# Altium footprint library T35-V2.PcbLib: 19 footprints (part 1 of 2)
Each footprint in its own frame and in the unit in brackets; x right, y up, seen from the top. Pads: shape width x height; smd on the part's side, far side on the other; paste and mask are expansions set on the pad; w line width, h text height; cw(c..) or ccw(c..) is an arc to the next point about the centre after c.
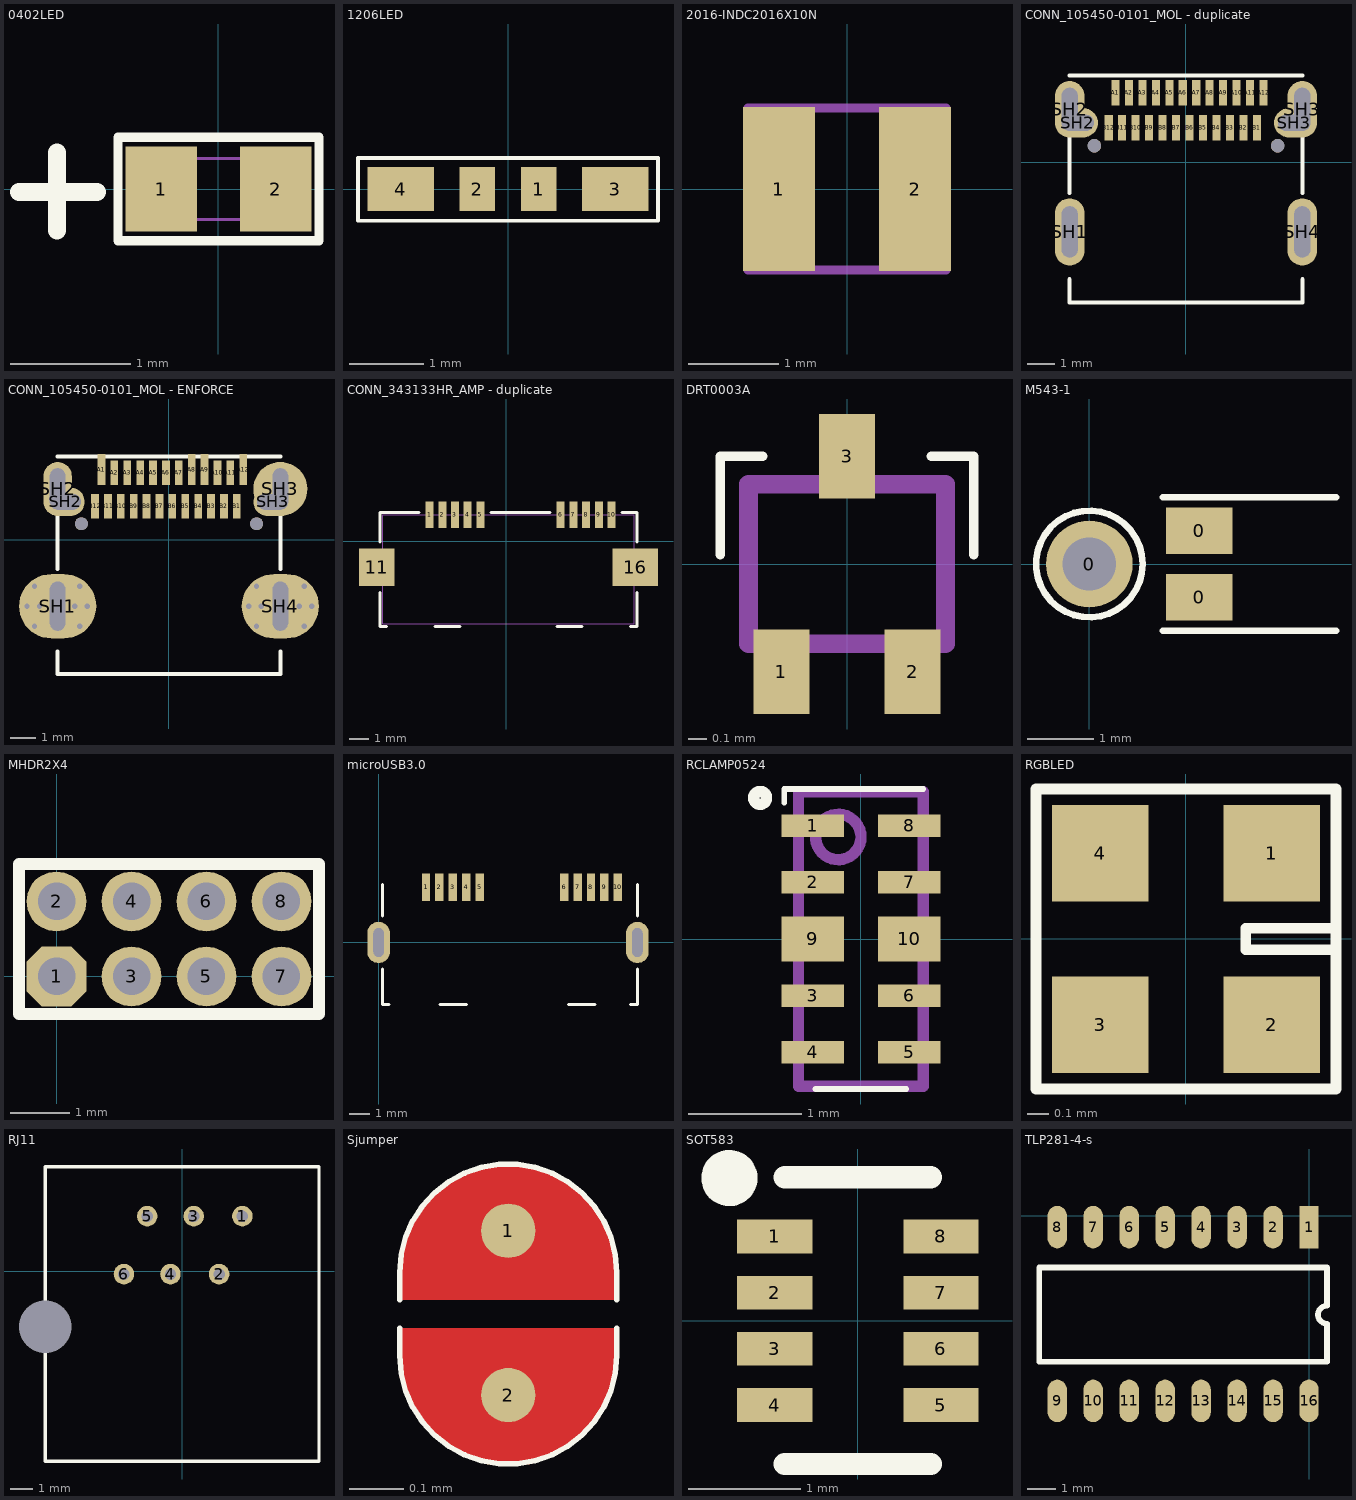
[diagram p0: the footprints below, top view; thin cyan lines are the x and y axes]

## 0402LED [mil]
pads (2):
  rect 23.5x28 smd paste+0 mask+0: 1(-18.75,0) 2(18.75,0)
Top Overlay:
  lines w3: -33,-17 33,-17 33,17 -33,17 -33,-17
  lines w6: -65.5,-1 -40,-1 ; -53,-13.5 -53,12
Mechanical 13:
  lines w1: -19.5,-10 19.5,-10 19.5,10 -19.5,10 -19.5,-10
3D body "LED_VLMW15_VIS.step": height 14.09, standoff -0.12, extent -19.49,-10.12 19.49,10.12

## 1206LED [mm]
height 1
pads (4):
  rect 0.48x0.6 smd: 1(0.415,0) 2(-0.415,0)
  rect 0.9x0.6 smd: 3(1.455,0) 4(-1.455,0)
Top Overlay:
  lines w0.05: -2.032,-0.432 2.032,-0.432 2.032,0.421 -2.032,0.421 -2.032,-0.432
3D body: height 1, standoff 0.05, extent -1.6,-0.5 1.6,0
3D body: height 1, standoff 0.05, extent -1,-1.5 1,-0.5

## 2016-INDC2016X10N [mm] "Chip Inductor, 2-Leads, Body 2.00x1.60mm, IPC Medium Density"
height 1
pads (2):
  rect 0.8x1.82 smd: 1(-0.755,0) 2(0.755,0)
Mechanical 13:
  lines w0.1: -1.1,-0.9 -1.1,0.9 1.1,0.9 1.1,-0.9 -1.1,-0.9
3D body "2016-INDC2016X10N.step": height 1, standoff 0, extent -1.1,-0.9 1.1,0.9

## CONN_105450-0101_MOL - duplicate [mm]
pads (32):
  rect 0.3x0.95 smd paste+0 mask+0: A1(-2.62,2.588) A2(-2.12,2.588) A3(-1.62,2.588) A4(-1.12,2.588) A5(-0.62,2.588) A6(-0.12,2.588) A7(0.38,2.588) A8(0.88,2.588) A9(1.38,2.588) A10(1.88,2.588) A11(2.38,2.588) A12(2.88,2.588) B1(2.63,1.288) B2(2.13,1.288) B3(1.63,1.288) B4(1.13,1.288) B5(0.63,1.288) B6(0.13,1.288) B7(-0.37,1.288) B8(-0.87,1.288) B9(-1.37,1.288) B10(-1.87,1.288) B11(-2.37,1.288) B12(-2.87,1.288)
  oval 1.1x2.5 hole 0.6 slot 1.9 at 90 deg: SH1(-4.32,-2.588) SH4(4.32,-2.588)
  oval 1.1x2.1 hole 0.6 slot 1.6 at 90 deg: SH2(-4.32,1.963) SH3(4.32,1.963)
  oval 1.5x1.1 hole 0.6 slot 1.2 at 0 deg: SH2(-4.02,1.462) SH3(4.02,1.462)
  round 0.5 hole 0.5 mask+0: ""(-3.4,0.613) ""(3.4,0.613)
Top Overlay:
  lines w0.152: -4.32,-4.343 -4.32,-5.211 4.32,-5.211 4.32,-4.343 ; -4.32,-1.146 -4.32,0.902 ; -4.32,3.224 4.32,3.224 ; 4.32,-1.146 4.32,0.902
3D body "c-2345986-1-1-3d.stp": height 3.2, standoff -0.56, extent -4.47,-5.287 4.47,2.813

## CONN_105450-0101_MOL - ENFORCE [mm]
pads (48):
  rect 0.3x1.2 smd paste+0 mask+0: A1(-2.62,2.712) A8(0.88,2.712) A9(1.38,2.712) A12(2.88,2.712)
  rect 0.3x0.95 smd paste+0 mask+0: A2(-2.12,2.588) A3(-1.62,2.588) A4(-1.12,2.588) A5(-0.62,2.588) A6(-0.12,2.588) A7(0.38,2.588) A10(1.88,2.588) A11(2.38,2.588) B1(2.63,1.288) B2(2.13,1.288) B3(1.63,1.288) B4(1.13,1.288) B5(0.63,1.288) B6(0.13,1.288) B7(-0.37,1.288) B8(-0.87,1.288) B9(-1.37,1.288) B10(-1.87,1.288) B11(-2.37,1.288) B12(-2.87,1.288)
  round 0.406 hole 0.203 mask+0: SH1(-5.512,-2.588) SH1(-5.22,-3.362) SH1(-5.22,-1.813) SH1(-5.029,-2.588) SH1(-3.658,-2.588) SH1(-3.467,-3.362) SH1(-3.467,-1.813) SH1(-3.175,-2.588) SH4(3.099,-2.588) SH4(3.391,-3.362) SH4(3.391,-1.813) SH4(3.581,-2.588) SH4(5.055,-2.591) SH4(5.245,-3.365) SH4(5.245,-1.816) SH4(5.537,-2.591)
  oval 3x2.5 / inner oval 1.1x2.5 / far side oval 3x2.5 hole 0.6 slot 1.9 at 90 deg: SH1(-4.32,-2.588) SH4(4.32,-2.588)
  oval 1.1x2.1 hole 0.6 slot 1.6 at 90 deg: SH2(-4.32,1.963)
  oval 1.5x1.1 hole 0.6 slot 1.2 at 0 deg: SH2(-4.02,1.462) SH3(4.02,1.462)
  round 2.1 / inner oval 1.1x2.1 / far side round 2.1 hole 0.6 slot 1.6 at 90 deg: SH3(4.32,1.963)
  round 0.5 hole 0.5 mask+0: ""(-3.4,0.613) ""(3.4,0.613)
Top Overlay:
  lines w0.152: -4.32,-4.343 -4.32,-5.211 4.32,-5.211 4.32,-4.343 ; -4.32,-1.146 -4.32,0.902 ; -4.32,3.224 4.32,3.224 ; 4.32,-1.146 4.32,0.902
3D body "c-2345986-1-1-3d.stp": height 3.2, standoff -0.56, extent -4.47,-5.287 4.47,2.813

## CONN_343133HR_AMP - duplicate [mil]
pads (12):
  rect 16x53 smd paste+0 mask+0: 1(-153.76,52.7) 2(-128.17,52.7) 3(-102.58,52.7) 4(-76.99,52.7) 5(-51.4,52.7) 6(110.02,52.7) 7(135.61,52.7) 8(161.2,52.7) 9(186.79,52.7) 10(212.38,52.7)
  rect 71x75 smd: 11(-260.14,-52.7)
  rect 91x75 smd: 16(260.14,-52.7)
Top Overlay:
  lines w6: -253.02,-103.3 -253.02,-171.3 -240.47,-171.3 ; -253.02,-2.1 -253.02,57.7 -174.86,57.7 ; -143.27,-171.3 -92.86,-171.3 ; -30.3,57.7 88.92,57.7 ; 102.82,-171.3 153.23,-171.3 ; 233.48,57.7 262.98,57.7 262.98,-2.1 ; 250.43,-171.3 262.98,-171.3 262.98,-103.3
Mechanical 13:
  lines w1: -248.02,-166.3 257.98,-166.3 257.98,52.7 -248.02,52.7 -248.02,-166.3
3D body "Download_STP_692622030100 (rev1).stp": height 108.14, standoff -7.92, extent -259.86,-167.53 281.17,53.02

## DRT0003A [mm]
pads (3):
  rect 0.3x0.45 smd paste+0 mask+0.051: 1(-0.35,-0.575) 2(0.35,-0.575) 3(0,0.575)
Top Overlay:
  lines w0.051: -0.675,0.05 -0.675,0.575 -0.45,0.575 ; 0.45,0.575 0.675,0.575 0.675,0.05
Mechanical 13:
  lines w0.1: -0.525,-0.425 0.525,-0.425 0.525,0.425 -0.525,0.425 -0.525,-0.425
3D body "DRT0003A.stp": height 0.5, standoff 0, extent -0.5,-0.5 0.5,0.5

## M543-1 [mm] "1.55*5.2（1A行程1.0）90度折弯针"
pads (3):
  round 1.3 hole 0.8: 0(0,0)
  rect 1x0.7 smd: 0(1.651,-0.5) 0(1.651,0.5)
Top Overlay:
  circle w0.1: c0,0 r0.8
  lines w0.1: 1.1,-1 3.7,-1 ; 1.1,1 3.7,1

## MHDR2X4 [mil]
pads (8):
  oct 40x40 hole 25: 1(0,0)
  round 40 hole 25: 2(0,50) 3(50,0) 4(50,50) 5(100,0) 6(100,50) 7(150,0) 8(150,50)
Top Overlay:
  lines w8: -25,-25 175,-25 175,75 -25,75 -25,-25
3D body "20021311-0008XXLFc.stp": height 170, standoff -93.78, extent -34.05,-33.1 184.06,85.01

## microUSB3.0 [mil]
pads (12):
  rect 16x53 smd paste+0 mask+0: 1(90.54,105.39) 2(116.13,105.39) 3(141.72,105.39) 4(167.31,105.39) 5(192.91,105.39) 6(354.33,105.39) 7(379.92,105.39) 8(405.51,105.39) 9(431.1,105.39) 10(456.69,105.39)
  oval 43.31x78.74 hole 19.68 slot 55.12 at 90 deg: ""(0,0) ""(494.09,0)
Top Overlay:
  lines w6: 7.12,-50.6 7.12,-118.61 19.67,-118.61 ; 7.12,50.6 7.12,110.39 ; 116.87,-118.61 167.27,-118.61 ; 362.96,-118.61 413.37,-118.61 ; 481.54,-118.61 494.09,-118.61 494.09,-50.6 ; 494.09,50.6 494.09,110.39
3D body "microbf有卷边脚距12.55_asm.stp": height 108.49, standoff -47.01, extent -14.61,-116 508.61,110.39

## RCLAMP0524 [mm]
pads (10):
  rect 0.55x0.2 smd paste+0 mask+0.051: 1(-0.425,1) 2(-0.425,0.5) 3(-0.425,-0.5) 4(-0.425,-1) 5(0.425,-1) 6(0.425,-0.5) 7(0.425,0.5) 8(0.425,1)
  rect 0.55x0.4 smd paste+0 mask+0.051: 9(-0.425,0) 10(0.425,0)
Top Overlay:
  circle w0.1: c-0.889,1.245 r0.057
  lines w0.05: -0.675,1.203 -0.675,1.323 -0.55,1.323 0.55,1.323 ; -0.4,-1.323 0.4,-1.323
Mechanical 13:
  circle w0.1: c-0.2,0.9 r0.2
  lines w0.1: -0.55,-1.3 -0.55,1.3 0.55,1.3 0.55,-1.3 -0.55,-1.3
3D body "DQA0010A.stp": height 0.55, standoff 0, extent -0.5,-1.25 0.5,1.25

## RGBLED [mm]
pads (4):
  rect 0.45x0.45 smd: 1(0.4,0.4) 2(0.4,-0.4) 3(-0.4,-0.4) 4(-0.4,0.4)
Top Overlay:
  lines w0.05: 0.686,-0.051 0.279,-0.051 0.279,0.051 0.686,0.051 ; -0.7,-0.7 0.7,-0.7 0.7,0.7 -0.7,0.7 -0.7,-0.7
3D body: height 0.85, standoff 0.1, extent -0.5,-0.5 0.5,0.5

## RJ11 [mm] "https://item.szlcsc.com/203237.html"
pads (7):
  round 0.9 hole 0.5 mask+0: 1(2.64,2.42) 2(1.62,-0.12) 3(0.51,2.42) 4(-0.51,-0.12) 5(-1.53,2.42) 6(-2.55,-0.12)
  round 2.2 hole 2.3: ""(-6,-2.42)
Top Overlay:
  lines w0.152: -6,-8.318 6,-8.318 6,4.58 -6,4.58 -6,-8.318
3D body "TJ6P6C gray.stp": height 14.63, standoff -3.12, extent -7.21,-8.352 7.29,4.648

## Sjumper [mm]
pads (2):
  round 0.1 smd mask+0.01: 1(2527.228,2514.575) 2(2527.228,2514.273)
Top Layer:
  region: 2527.028,2514.346 2527.028,2514.396 2527.428,2514.396 2527.428,2514.346 2527.428,2514.306 2527.397,2514.233 2527.341,2514.176 2527.268,2514.146 2527.188,2514.146 2527.115,2514.176 2527.058,2514.233 2527.028,2514.306
  region: 2527.028,2514.448 2527.428,2514.448 2527.428,2514.498 2527.428,2514.538 2527.397,2514.612 2527.341,2514.668 2527.268,2514.698 2527.188,2514.698 2527.115,2514.668 2527.058,2514.612 2527.028,2514.538 2527.028,2514.498
Top Overlay:
  lines w0.01: 2527.028,2514.396 2527.028,2514.346 ccw(c2527.228,2514.346) 2527.428,2514.346 2527.428,2514.396 ; 2527.028,2514.448 2527.028,2514.498 cw(c2527.228,2514.498) 2527.428,2514.498 2527.428,2514.448
Top Solder:
  region: 2527.027,2514.346 2527.027,2514.306 2527.057,2514.233 2527.114,2514.176 2527.187,2514.146 2527.267,2514.146 2527.34,2514.176 2527.397,2514.233 2527.427,2514.306 2527.427,2514.346 2527.427,2514.498 2527.427,2514.538 2527.397,2514.612 2527.34,2514.668 2527.267,2514.698 2527.187,2514.698 2527.114,2514.668 2527.057,2514.612 2527.027,2514.538 2527.027,2514.498

## SOT583 [mm]
pads (8):
  rect 0.67x0.3 smd paste+0 mask+0: 1(-0.74,0.75) 2(-0.74,0.25) 3(-0.74,-0.25) 4(-0.74,-0.75) 5(0.74,-0.75) 6(0.74,-0.25) 7(0.74,0.25) 8(0.74,0.75)
Top Overlay:
  circle w0.25: c-1.143,1.27 r0.125
  lines w0.2: -0.65,-1.275 0.65,-1.275 ; -0.65,1.275 0.65,1.275
3D body "DRL0008A.stp": height 0.6, standoff 0, extent -0.8,-1.05 0.8,1.05

## TLP281-4-s [mil]
pads (16):
  rect 27x59.06 smd: 1(0,-16)
  oval 27x59.06 smd: 2(-50,-16) 3(-100,-16) 4(-150,-16) 5(-200,-16) 6(-250,-16) 7(-300,-16) 8(-350,-16) 9(-350,-257.59) 10(-300,-257.59) 11(-250,-257.59) 12(-200,-257.59) 13(-150,-257.59) 14(-100,-257.59) 15(-50,-257.59) 16(0,-257.59)
Top Overlay:
  lines w7.87: -375,-203.35 -375,-72.24 25,-72.24 25,-125.3 ccw(c25,-137.79) 25,-150.29 25,-203.35 -375,-203.35
3D body "SO-16.step": height 69.88, standoff 0.46, extent -372.84,-255.85 19.68,-14.24